# EAGLE library part JACK-T568A-SHIELDED (library greg-Connector)
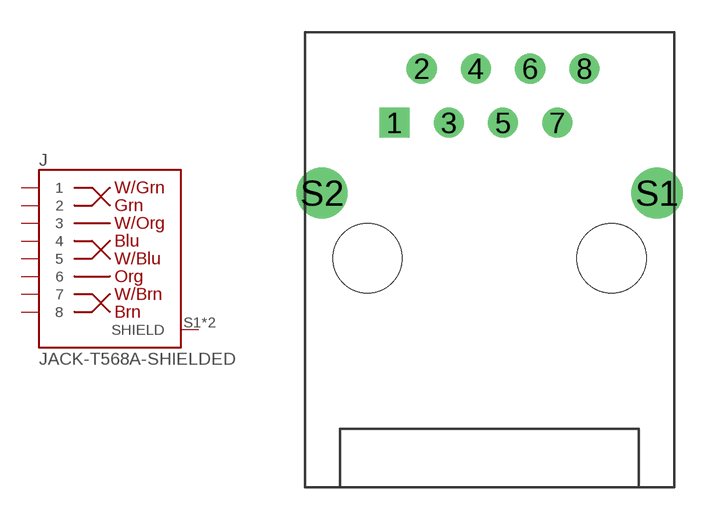
[diagram p9: symbol with the pads of TE-2301994-4; footprint TE-2301994-4]

Designator prefix J

## JACK-T568A-SHIELDEDRA  [TE-2301994-4]
1  1
2  2
3  3
4  4
5  5
6  6
7  7
8  8
S1  SHIELD
S2  SHIELD

## Footprint TE-2301994-4 (pad centres in mm)
drill 0.9 square: 1 -4.445,6.35
drill 0.9: 2 -3.175,8.89; 3 -1.905,6.35; 4 -0.635,8.89; 5 0.635,6.35; 6 1.905,8.89; 7 3.175,6.35; 8 4.445,8.89
drill 1.6: S1 7.85,3.05; S2 -7.85,3.05
hole 3.25 at -5.715,0
hole 3.25 at 5.715,0